# Altium schematic symbol library EL-sense_Inductance.SchLib: 5 symbols
Pins are listed as number, name and electrical type; pins without a type are passive.

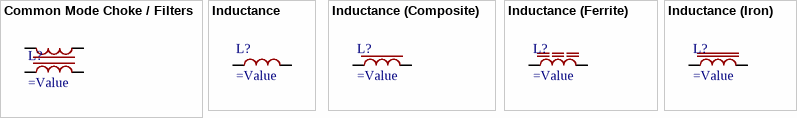
[diagram p0: symbols Common Mode Choke / Filters to Inductance (Iron)]

## Common Mode Choke / Filters
designator L?
pins: 1, 2, 3, 4

## Inductance
designator L?
pins: 1, 2

## Inductance (Composite)
designator L?
pins: 1, 2

## Inductance (Ferrite)
designator L?
pins: 1, 2

## Inductance (Iron)
designator L?
pins: 1, 2